# EAGLE library part TPS84250_RKG_41 (library SensorCape)
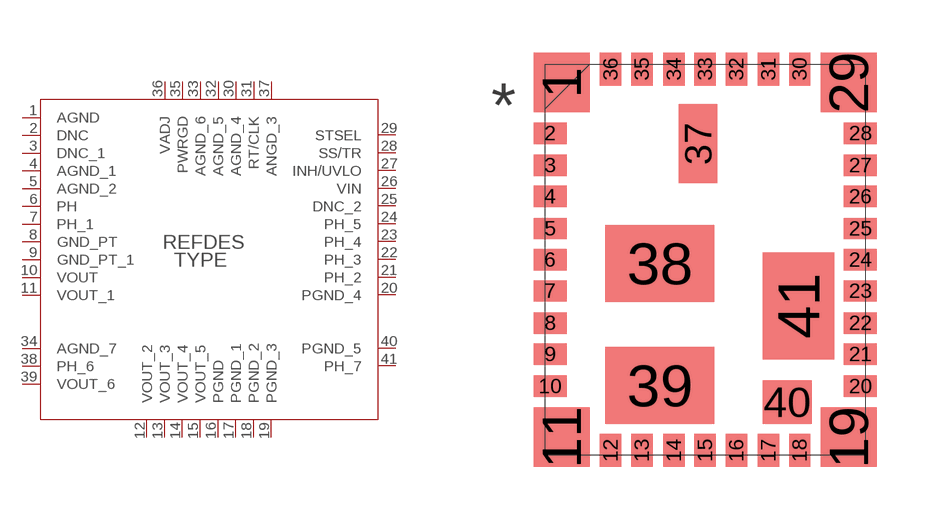
[diagram p6: symbol with the pads of RKG41; footprint RKG41]

Designator prefix U

## TPS84250_RKG_41  [RKG41]
1  AGND  pas
2  DNC  pas
3  DNC_1  pas
4  AGND_1  pas
5  AGND_2  pas
6  PH  pas
7  PH_1  pas
8  GND_PT  pas
9  GND_PT_1  pas
10  VOUT  pas
11  VOUT_1  pas
12  VOUT_2  pas
13  VOUT_3  pas
14  VOUT_4  pas
15  VOUT_5  pas
16  PGND  pas
17  PGND_1  pas
18  PGND_2  pas
19  PGND_3  pas
20  PGND_4  pas
21  PH_2  pas
22  PH_3  pas
23  PH_4  pas
24  PH_5  pas
25  DNC_2  pas
26  VIN  pas
27  INH/UVLO  pas
28  SS/TR  pas
29  STSEL  pas
30  AGND_4  pas
31  RT/CLK  pas
32  AGND_5  pas
33  AGND_6  pas
34  AGND_7  pas
35  PWRGD  pas
36  VADJ  pas
37  ANGD_3  pas
38  PH_6  pas
39  VOUT_6  pas
40  PGND_5  pas
41  PH_7  pas

## Footprint RKG41 (pad centres in mm)
smd 1.6 x 1.702: 1 0,0; 11 0,-10.109; 19 8.179,-10.109; 29 8.179,0
smd 0.94 x 0.61: 2 -0.33,-1.448; 3 -0.33,-2.362; 4 -0.33,-3.251; 5 -0.33,-4.166; 6 -0.33,-5.055; 7 -0.33,-5.944; 8 -0.33,-6.858; 9 -0.33,-7.747; 10 -0.33,-8.661; 20 8.509,-8.661; 21 8.509,-7.747; 22 8.509,-6.858; 23 8.509,-5.944; 24 8.509,-5.055; 25 8.509,-4.166; 26 8.509,-3.251; 27 8.509,-2.362; 28 8.509,-1.448
smd 0.61 x 0.94: 12 1.397,-10.49; 13 2.286,-10.49; 14 3.2,-10.49; 15 4.089,-10.49; 16 4.978,-10.49; 17 5.893,-10.49; 18 6.782,-10.49; 30 6.782,0.381; 31 5.893,0.381; 32 4.978,0.381; 33 4.089,0.381; 34 3.2,0.381; 35 2.286,0.381; 36 1.397,0.381
smd 1.1 x 2.25: 37 3.88,-1.75
smd 3.1 x 2.2: 38 2.8,-5.16; 39 2.8,-8.64
smd 1.4 x 1.24: 40 6.43,-9.11
smd 2.04 x 3.05: 41 6.75,-6.37